# Altium footprint library LP38690SDX33NOPB.PcbLib: 3 footprints
Each footprint in its own frame and in the unit in brackets; x right, y up, seen from the top. Pads: shape width x height; smd on the part's side, far side on the other; paste and mask are expansions set on the pad; w line width, h text height; cw(c..) or ccw(c..) is an arc to the next point about the centre after c.
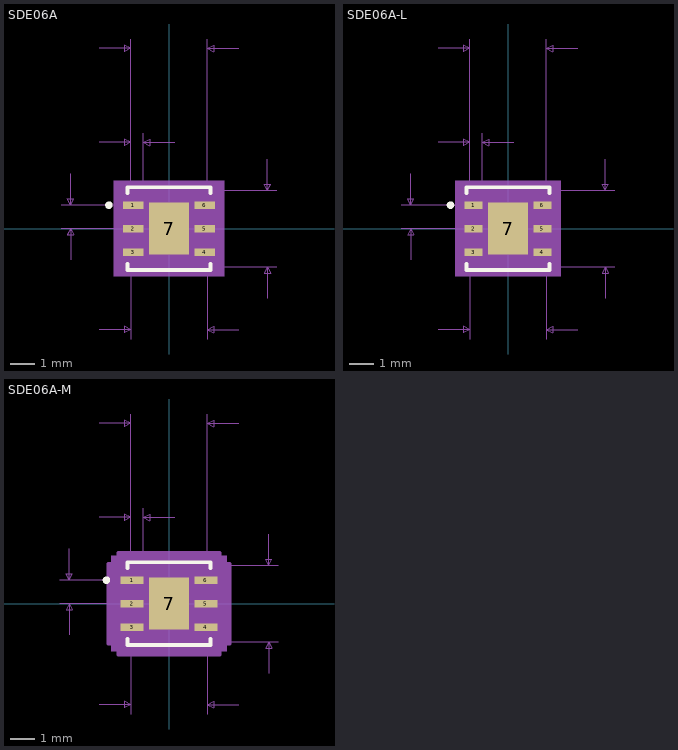
[diagram p0: the footprints below, top view; thin cyan lines are the x and y axes]

## SDE06A [mil]
pads (7):
  rect 32x12 smd paste+0 mask+0: 1(-57,37.4) 2(-57,0) 3(-57,-37.4) 4(57,-37.4) 5(57,0) 6(57,37.4)
  rect 62.99x82.68 smd paste-40.84 mask+0: 7(0,0)
Top Overlay:
  circle w6: c-95.7,37.4 r3
  lines w6: -66,-56.5 -66,-66 66,-66 66,-56.5 ; -66,56.5 -66,66 66,66 66,56.5
Top Paste:
  region: 31.5,41.34 -31.5,41.34 -31.5,-41.34 31.5,-41.34
Mechanical 5:
  region: 88,-76 -88,-76 -88,76 88,76
Mechanical 7:
  lines w1: -172,0 -57,0 ; -172,37.4 -57,37.4 ; -157,-50 -157,0 ; -157,87.4 -157,37.4 ; -111,-161 -61,-161 ; -111,137.4 -61,137.4 ; -111,287.4 -61,287.4 ; -61,-176 -61,-61 ; -61,152.4 -61,37.4 -61,302.4 ; -41,37.4 -41,152.4 ; 9,137.4 -41,137.4 ; 61,-176 61,-61 172,-61 ; 61,37.4 61,302.4 ; 61,61 172,61 ; 111,-161 61,-161 ; 111,287.4 61,287.4 ; 157,-111 157,-61 ; 157,111 157,61 ; -157,0 -162,-10 -152,-10 -157,0 ; -157,37.4 -162,47.4 -152,47.4 -157,37.4 ; -61,-161 -71,-156 -71,-166 -61,-161 ; -61,137.4 -71,142.4 -71,132.4 -61,137.4 ; -61,287.4 -71,292.4 -71,282.4 -61,287.4 ; -41,137.4 -31,142.4 -31,132.4 -41,137.4 ; 61,-161 71,-156 71,-166 61,-161 ; 61,287.4 71,292.4 71,282.4 61,287.4 ; 157,-61 152,-71 162,-71 157,-61 ; 157,61 152,71 162,71 157,61
  text "Default Padstyle: RX32Y12D0T" at -350,-311 h50
  text "Heat Tab Padstyle: RX62p99Y82p68D0T" at -437.5,-371 h50
  text "Alt 1 Padstyle: OX60Y90D30P" at -337.5,-491 h50
  text "Alt 2 Padstyle: OX90Y60D30P" at -337.5,-551 h50
  text "0.122in/3.099mm" at -93.75,307.4 h25
  text "0.02in/0.508mm" at -138.5,157.4 h25
  text "0.037in/0.95mm" at -352,6.2 h25
  text "0.122in/3.099mm" at 177,-12.5 h25
  text "0.122in/3.099mm" at -93.75,-206 h25
Mechanical 13:
  circle w0: c-36,37.4 r3
  lines w1: -61,41 -41,61 ; -61,-61 61,-61 61,61 -61,61 -61,-61
Mechanical 15:
  region: -71,-58.1 -83,-58.1 -83,58.1 -71,58.1 -71,71 71,71 71,58.1 83,58.1 83,-58.1 71,-58.1 71,-71 -71,-71
  lines w6: -83,-58.1 -83,58.1 -71,58.1 -71,71 71,71 71,58.1 83,58.1 83,-58.1 71,-58.1 71,-71 -71,-71 -71,-58.1 -83,-58.1
3D body: height 10, standoff 0, extent 0,0 10,10

## SDE06A-L [mil]
pads (7):
  rect 28x12 smd paste+0 mask+0: 1(-55,37.4) 2(-55,0) 3(-55,-37.4) 4(55,-37.4) 5(55,0) 6(55,37.4)
  rect 62.99x82.68 smd paste-40.84 mask+0: 7(0,0)
Top Overlay:
  circle w6: c-91.7,37.4 r3
  lines w6: -66,-56.5 -66,-66 66,-66 66,-56.5 ; -66,56.5 -66,66 66,66 66,56.5
Top Paste:
  region: 31.5,41.34 -31.5,41.34 -31.5,-41.34 31.5,-41.34
Mechanical 5:
  region: 84,-76 -84,-76 -84,76 84,76
Mechanical 7:
  lines w1: -170,0 -55,0 ; -170,37.4 -55,37.4 ; -155,-50 -155,0 ; -155,87.4 -155,37.4 ; -111,-161 -61,-161 ; -111,137.4 -61,137.4 ; -111,287.4 -61,287.4 ; -61,-176 -61,-61 ; -61,152.4 -61,37.4 -61,302.4 ; -41,37.4 -41,152.4 ; 9,137.4 -41,137.4 ; 61,-176 61,-61 170,-61 ; 61,37.4 61,302.4 ; 61,61 170,61 ; 111,-161 61,-161 ; 111,287.4 61,287.4 ; 155,-111 155,-61 ; 155,111 155,61 ; -155,0 -160,-10 -150,-10 -155,0 ; -155,37.4 -160,47.4 -150,47.4 -155,37.4 ; -61,-161 -71,-156 -71,-166 -61,-161 ; -61,137.4 -71,142.4 -71,132.4 -61,137.4 ; -61,287.4 -71,292.4 -71,282.4 -61,287.4 ; -41,137.4 -31,142.4 -31,132.4 -41,137.4 ; 61,-161 71,-156 71,-166 61,-161 ; 61,287.4 71,292.4 71,282.4 61,287.4 ; 155,-61 150,-71 160,-71 155,-61 ; 155,61 150,71 160,71 155,61
  text "Default Padstyle: RX28Y12D0T" at -350,-311 h50
  text "Heat Tab Padstyle: RX62p99Y82p68D0T" at -437.5,-371 h50
  text "Alt 1 Padstyle: OX60Y90D30P" at -337.5,-491 h50
  text "Alt 2 Padstyle: OX90Y60D30P" at -337.5,-551 h50
  text "0.122in/3.099mm" at -93.75,307.4 h25
  text "0.02in/0.508mm" at -138.5,157.4 h25
  text "0.037in/0.95mm" at -350,6.2 h25
  text "0.122in/3.099mm" at 175,-12.5 h25
  text "0.122in/3.099mm" at -93.75,-206 h25
Mechanical 13:
  circle w0: c-36,37.4 r3
  lines w1: -61,41 -41,61 ; -61,-61 61,-61 61,61 -61,61 -61,-61
Mechanical 15:
  region: -65,-47.4 -73,-47.4 -73,47.4 -65,47.4 -65,65 65,65 65,47.4 73,47.4 73,-47.4 65,-47.4 65,-65 -65,-65
  lines w6: -73,-47.4 -73,47.4 -65,47.4 -65,65 65,65 65,47.4 73,47.4 73,-47.4 65,-47.4 65,-65 -65,-65 -65,-47.4 -73,-47.4
3D body: height 10, standoff 0, extent 0,0 10,10

## SDE06A-M [mil]
pads (7):
  rect 36x12 smd paste+0 mask+0: 1(-59,37.4) 2(-59,0) 3(-59,-37.4) 4(59,-37.4) 5(59,0) 6(59,37.4)
  rect 62.99x82.68 smd paste-40.84 mask+0: 7(0,0)
Top Overlay:
  circle w6: c-99.7,37.4 r3
  lines w6: -66,-56.5 -66,-66 66,-66 66,-56.5 ; -66,56.5 -66,66 66,66 66,56.5
Top Paste:
  region: 31.5,41.34 -31.5,41.34 -31.5,-41.34 31.5,-41.34
Mechanical 5:
  region: 92,-76 -92,-76 -92,76 92,76
Mechanical 7:
  lines w1: -174,0 -59,0 ; -174,37.4 -59,37.4 ; -159,-50 -159,0 ; -159,87.4 -159,37.4 ; -111,-161 -61,-161 ; -111,137.4 -61,137.4 ; -111,287.4 -61,287.4 ; -61,-176 -61,-61 ; -61,152.4 -61,37.4 -61,302.4 ; -41,37.4 -41,152.4 ; 9,137.4 -41,137.4 ; 61,-176 61,-61 174,-61 ; 61,37.4 61,302.4 ; 61,61 174,61 ; 111,-161 61,-161 ; 111,287.4 61,287.4 ; 159,-111 159,-61 ; 159,111 159,61 ; -159,0 -164,-10 -154,-10 -159,0 ; -159,37.4 -164,47.4 -154,47.4 -159,37.4 ; -61,-161 -71,-156 -71,-166 -61,-161 ; -61,137.4 -71,142.4 -71,132.4 -61,137.4 ; -61,287.4 -71,292.4 -71,282.4 -61,287.4 ; -41,137.4 -31,142.4 -31,132.4 -41,137.4 ; 61,-161 71,-156 71,-166 61,-161 ; 61,287.4 71,292.4 71,282.4 61,287.4 ; 159,-61 154,-71 164,-71 159,-61 ; 159,61 154,71 164,71 159,61
  text "Default Padstyle: RX36Y12D0T" at -350,-311 h50
  text "Heat Tab Padstyle: RX62p99Y82p68D0T" at -437.5,-371 h50
  text "Alt 1 Padstyle: OX60Y90D30P" at -337.5,-491 h50
  text "Alt 2 Padstyle: OX90Y60D30P" at -337.5,-551 h50
  text "0.122in/3.099mm" at -93.75,307.4 h25
  text "0.02in/0.508mm" at -138.5,157.4 h25
  text "0.037in/0.95mm" at -354,6.2 h25
  text "0.122in/3.099mm" at 179,-12.5 h25
  text "0.122in/3.099mm" at -93.75,-206 h25
Mechanical 13:
  circle w0: c-36,37.4 r3
  lines w1: -61,41 -41,61 ; -61,-61 61,-61 61,61 -61,61 -61,-61
Mechanical 15:
  region: -81,-63.4 -97,-63.4 -97,63.4 -81,63.4 -81,81 81,81 81,63.4 97,63.4 97,-63.4 81,-63.4 81,-81 -81,-81
  lines w6: -97,-63.4 -97,63.4 -81,63.4 -81,81 81,81 81,63.4 97,63.4 97,-63.4 81,-63.4 81,-81 -81,-81 -81,-63.4 -97,-63.4
3D body: height 10, standoff 0, extent 0,0 10,10